# Altium footprint library 无限下载.PcbLib: 17 footprints (part 1 of 2)
Each footprint in its own frame and in the unit in brackets; x right, y up, seen from the top. Pads: shape width x height; smd on the part's side, far side on the other; paste and mask are expansions set on the pad; w line width, h text height; cw(c..) or ccw(c..) is an arc to the next point about the centre after c.
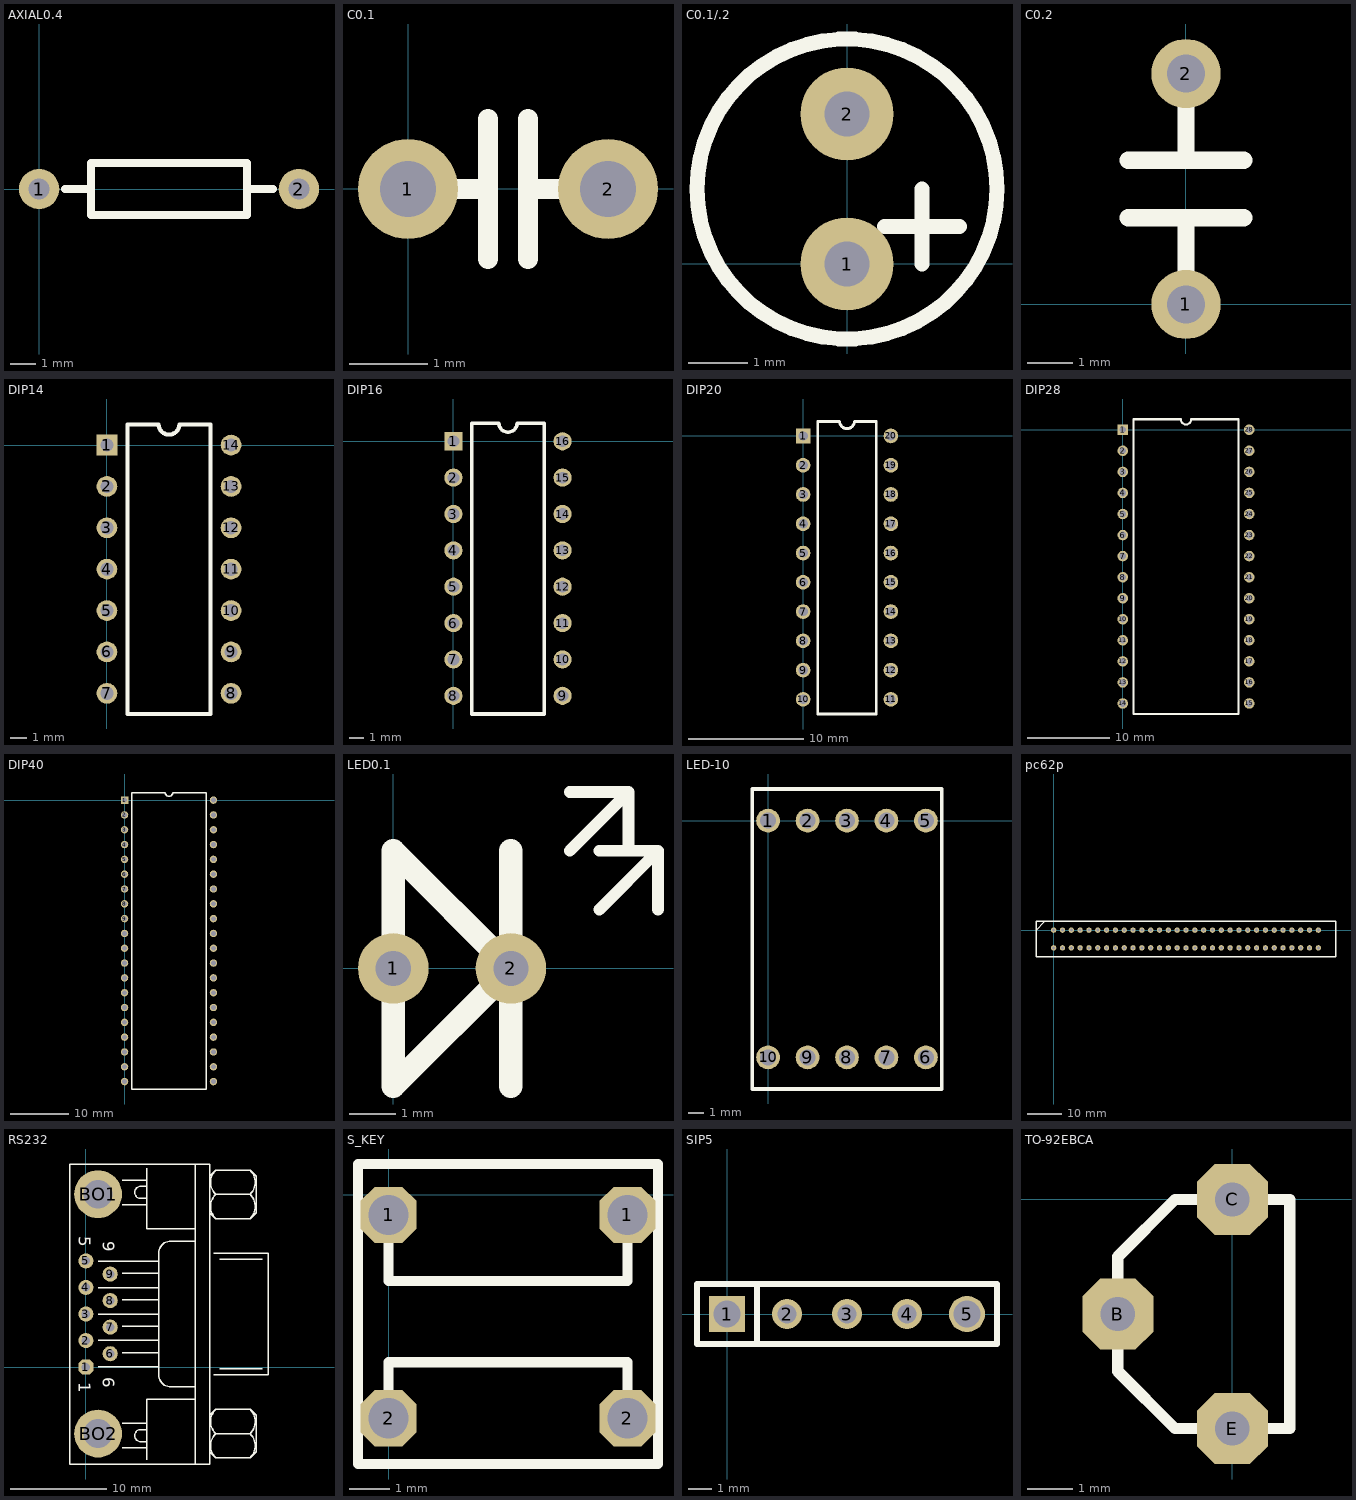
[diagram p0: the footprints below, top view; thin cyan lines are the x and y axes]

## AXIAL0.4 [mil]
pads (2):
  round 62 hole 32: 1(0,0) 2(400,0)
Top Overlay:
  lines w12: 40,0 80,0 ; 320,0 360,0 ; 80,-40 80,40 320,40 320,-40 80,-40

## C0.1 [mil]
pads (2):
  round 50 hole 28: 1(-0.07,-0.04) 2(99.93,-0.04)
Top Overlay:
  lines w10: -0.07,-0.04 39.93,-0.04 ; 39.93,-35.04 39.93,34.96 ; 59.93,-35.04 59.93,34.96 ; 59.93,-0.04 99.93,-0.04

## C0.1/.2 [mil]
pads (2):
  round 62 hole 30: 1(0,0) 2(0,100)
Top Overlay:
  circle w10: c0,50 r100
  lines w10: 25,25 75,25 ; 50,0 50,50

## C0.2 [mil]
pads (2):
  round 60 hole 33: 1(0,0) 2(0,200)
Top Overlay:
  lines w15: -50,75 50,75 ; -50,125 50,125 ; 0,0 0,75 ; 0,125 0,200

## DIP14 [mil]
pads (14):
  rect 50x50 hole 32: 1(0,0)
  round 50 hole 32: 2(0,-100) 3(0,-200) 4(0,-300) 5(0,-400) 6(0,-500) 7(0,-600) 8(300,-600) 9(300,-500) 10(300,-400) 11(300,-300) 12(300,-200) 13(300,-100) 14(300,0)
Top Overlay:
  lines w10: 50,-650 50,50 125,50 ccw(c150,50) 175,50 250,50 250,-650 50,-650

## DIP16 [mil]
pads (16):
  rect 50x50 hole 32: 1(0,0)
  round 50 hole 32: 2(0,-100) 3(0,-200) 4(0,-300) 5(0,-400) 6(0,-500) 7(0,-600) 8(0,-700) 9(300,-700) 10(300,-600) 11(300,-500) 12(300,-400) 13(300,-300) 14(300,-200) 15(300,-100) 16(300,0)
Top Overlay:
  lines w10: 50,-750 250,-750 250,50 175,50 cw(c150,50) 125,50 50,50 50,-750

## DIP20 [mil]
pads (20):
  rect 50x50 hole 32: 1(0,0)
  round 50 hole 32: 2(0,-100) 3(0,-200) 4(0,-300) 5(0,-400) 6(0,-500) 7(0,-600) 8(0,-700) 9(0,-800) 10(0,-900) 11(300,-900) 12(300,-800) 13(300,-700) 14(300,-600) 15(300,-500) 16(300,-400) 17(300,-300) 18(300,-200) 19(300,-100) 20(300,0)
Top Overlay:
  lines w10: 50,-950 50,50 125,50 ccw(c150,50) 175,50 250,50 250,-950 50,-950

## DIP28 [mil]
pads (28):
  rect 50x50 hole 32: 1(0,0)
  round 50 hole 32: 2(0,-100) 3(0,-200) 4(0,-300) 5(0,-400) 6(0,-500) 7(0,-600) 8(0,-700) 9(0,-800) 10(0,-900) 11(0,-1000) 12(0,-1100) 13(0,-1200) 14(0,-1300) 15(600,-1300) 16(600,-1200) 17(600,-1100) 18(600,-1000) 19(600,-900) 20(600,-800) 21(600,-700) 22(600,-600) 23(600,-500) 24(600,-400) 25(600,-300) 26(600,-200) 27(600,-100) 28(600,0)
Top Overlay:
  lines w10: 50,-1350 550,-1350 550,50 325,50 cw(c300,50) 275,50 50,50 50,-1350

## DIP40 [mil]
pads (40):
  rect 50x50 hole 32: 1(0,0)
  round 50 hole 32: 2(0,-100) 3(0,-200) 4(0,-300) 5(0,-400) 6(0,-500) 7(0,-600) 8(0,-700) 9(0,-800) 10(0,-900) 11(0,-1000) 12(0,-1100) 13(0,-1200) 14(0,-1300) 15(0,-1400) 16(0,-1500) 17(0,-1600) 18(0,-1700) 19(0,-1800) 20(0,-1900) 21(600,-1900) 22(600,-1800) 23(600,-1700) 24(600,-1600) 25(600,-1500) 26(600,-1400) 27(600,-1300) 28(600,-1200) 29(600,-1100) 30(600,-1000) 31(600,-900) 32(600,-800) 33(600,-700) 34(600,-600) 35(600,-500) 36(600,-400) 37(600,-300) 38(600,-200) 39(600,-100) 40(600,0)
Top Overlay:
  lines w10: 50,-1950 550,-1950 550,50 325,50 cw(c300,50) 275,50 50,50 50,-1950

## LED0.1 [mil]
pads (2):
  round 60 hole 30: 1(0,0) 2(100,0)
Top Overlay:
  lines w10: 150,100 200,150 ; 175,50 225,100 ; 175,100 225,100 ; 175,150 150,150 200,150 ; 200,100 200,125 200,150 ; 225,50 225,100
  lines w20: 100,-100 100,100 ; 0,-100 0,100 100,0 0,-100

## LED-10 [mil]
pads (10):
  round 60 hole 40: 1(0,0) 2(100,0) 3(200,0) 4(300,0) 5(400,0) 6(400,-600) 7(300,-600) 8(200,-600) 9(100,-600) 10(0,-600)
Top Overlay:
  lines w10: -40,-680 440,-680 440,80 -40,80 -40,-680

## pc62p [mil]
pads (62):
  round 60 hole 33: A1(0,0) A2(100,0) A3(200,0) A4(300,0) A5(400,0) A6(500,0) A7(600,0) A8(700,0) A9(800,0) A10(900,0) A11(1000,0) A12(1100,0) A13(1200,0) A14(1300,0) A15(1400,0) A16(1500,0) A17(1600,0) A18(1700,0) A19(1800,0) A20(1900,0) A21(2000,0) A22(2100,0) A23(2200,0) A24(2300,0) A25(2400,0) A26(2500,0) A27(2600,0) A28(2700,0) A29(2800,0) A30(2900,0) A31(3000,0) B1(0,-200) B2(100,-200) B3(200,-200) B4(300,-200) B5(400,-200) B6(500,-200) B7(600,-200) B8(700,-200) B9(800,-200) B10(900,-200) B11(1000,-200) B12(1100,-200) B13(1200,-200) B14(1300,-200) B15(1400,-200) B16(1500,-200) B17(1600,-200) B18(1700,-200) B19(1800,-200) B20(1900,-200) B21(2000,-200) B22(2100,-200) B23(2200,-200) B24(2300,-200) B25(2400,-200) B26(2500,-200) B27(2600,-200) B28(2700,-200) B29(2800,-200) B30(2900,-200) B31(3000,-200)
Top Overlay:
  lines w12: -200,0 -100,100
  lines w16: -200,-300 -200,100 3200,100 3200,-300 -200,-300

## RS232 [mil]
pads (11):
  oct 62x62 hole 35: 1(0,0)
  round 62 hole 35: 2(0,109.17) 3(0,218.33) 4(0,327.5) 5(0,436.67) 6(100,55) 7(100,164.17) 8(100,273.33) 9(100,382.5)
  round 196.67 hole 118.33: BO1(50,710.83) BO2(50,-273.33)
Top Overlay:
  lines w6: 50,1.67 300,1.67 ; 50,110 300,110 ; 50,218.33 300,218.33 ; 50,326.67 300,326.67 ; 50,435 300,435 ; 150,-331.67 250,-331.67 ; 150,-231.67 250,-231.67 ; 150,60 158.33,60 300,60 ; 150,168.33 300,168.33 ; 150,276.67 300,276.67 ; 150,385 300,385 ; 150,668.33 250,668.33 ; 150,768.33 250,768.33 ; 250,-381.67 250,-131.67 450,-131.67 ; 250,-306.67 225,-306.67 cw(c225,-281.67) 225,-256.67 250,-256.67 ; 250,693.33 225,693.33 cw(c225,718.33) 225,743.33 250,743.33 ; 250,818.33 250,568.33 450,568.33 ; 450,-398.33 450,835 ; 450,-81.67 350,-81.67 cw(c350,-31.67) 300,-31.67 300,468.33 cw(c350,468.33) 350,518.33 450,518.33 ; 508.33,-348.33 533.33,-373.33 675,-373.33 700,-348.33 700,-198.33 675,-173.33 533.33,-173.33 508.33,-198.33 ; 508.33,635 533.33,610 675,610 700,635 700,785 675,810 533.33,810 508.33,785 ; 525,-31.67 750,-31.67 750,468.33 525,468.33 ; 533.25,-373.42 cw(c583.33,-323.33) 533.25,-273.25 ; 533.25,-273.42 cw(c583.33,-223.33) 533.25,-173.25 ; 533.25,609.91 cw(c583.33,660) 533.25,710.09 ; 533.25,709.91 cw(c583.33,760) 533.25,810.09 ; 533.33,-273.33 675,-273.33 ; 533.33,710 675,710 ; 550,-6.67 725,-6.67 ; 550,443.33 725,443.33 ; 675.09,-373.42 ccw(c625,-323.33) 675.09,-273.25 ; 675.09,-273.42 ccw(c625,-223.33) 675.09,-173.25 ; 675.09,609.91 ccw(c625,660) 675.09,710.09 ; 675.09,709.91 ccw(c625,760) 675.09,810.09 ; -66.67,-398.33 -66.67,835 508.33,835 508.33,-398.33 -66.67,-398.33
  text "6" at 70,-41.67 h50
  text "1" at -30,-61.67 h50
  text "5" at -30,538.33 h50
  text "9" at 70,518.33 h50

## S_KEY [mm]
pads (4):
  oct 1.4x1.4 hole 1: 1(0,-0.508) 1(5.969,-0.508) 2(0,-5.588) 2(5.969,-5.588)
Top Overlay:
  lines w0.254: 0,-4.953 0,-4.191 0.889,-4.191 5.334,-4.191 5.969,-4.191 5.969,-4.953 ; 0,-1.143 0,-1.651 0,-2.159 0.889,-2.159 5.334,-2.159 5.969,-2.159 5.969,-1.143 ; -0.762,-6.731 -0.762,0.762 6.731,0.762 6.731,-6.731 -0.762,-6.731

## SIP5 [mil]
pads (5):
  rect 60x60 hole 45: 1(0,0)
  round 50 hole 32: 2(100,0) 3(200,0) 4(300,0)
  round 60 hole 45: 5(400,0)
Top Overlay:
  lines w10: 50,-50 50,50 ; -50,-50 450,-50 450,50 -50,50 -50,-50

## TO-92EBCA [mil]
pads (3):
  oct 62x62 hole 30: B(-100,-100) C(0,0) E(0,-200)
Top Overlay:
  lines w10: -100,-150 -50,-200 50,-200 50,0 -50,0 -100,-50 -100,-150